# Altium footprint library RES_0201.PcbLib: 1 footprints
Each footprint in its own frame and in the unit in brackets; x right, y up, seen from the top. Pads: shape width x height; smd on the part's side, far side on the other; paste and mask are expansions set on the pad; w line width, h text height; cw(c..) or ccw(c..) is an arc to the next point about the centre after c.
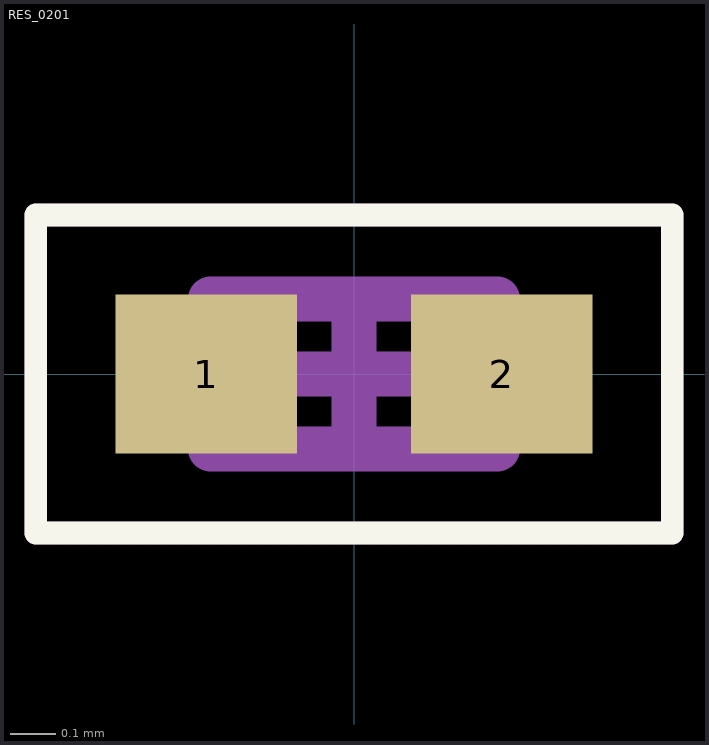
[diagram p0: the footprint, top view; thin cyan lines are the x and y axes]

## RES_0201 [mm]
height 0.26
pads (2):
  rect 0.4x0.35 smd mask+0.05: 1(-0.325,0) 2(0.325,0)
Top Overlay:
  lines w0.05: -0.7,-0.35 -0.7,0.35 ; -0.7,-0.35 0.7,-0.35 ; -0.7,-0.35 -0.7,0.35 ; -0.7,-0.35 0.7,-0.35 ; -0.7,0.35 0.7,0.35 ; -0.7,0.35 0.7,0.35 ; 0.7,-0.35 0.7,0.35 ; 0.7,-0.35 0.7,0.35
Top Assembly:
  lines w0.1: -0.315,-0.165 -0.315,0.165 0.315,0.165 0.315,-0.165 -0.315,-0.165
Top Courtyard:
  lines w0.05: -0.7,-0.35 -0.7,0.35 ; -0.7,-0.35 0.7,-0.35 ; -0.7,-0.35 0.7,-0.35 ; -0.7,-0.35 -0.7,0.35 ; -0.7,0.35 0.7,0.35 ; -0.7,0.35 0.7,0.35 ; 0.7,-0.35 0.7,0.35 ; 0.7,-0.35 0.7,0.35
Top Component Center:
  lines w0.1: -0.165,0 0.165,0 ; 0,-0.165 0,0.165
3D body "RES_0201_new.step": height 0.26, standoff 0, extent -0.315,-0.165 0.315,0.165